# Altium schematic symbol library CP80 Preamp_OLD.SCHLIB: 22 symbols
Pins are listed as number, name and electrical type; pins without a type are passive.

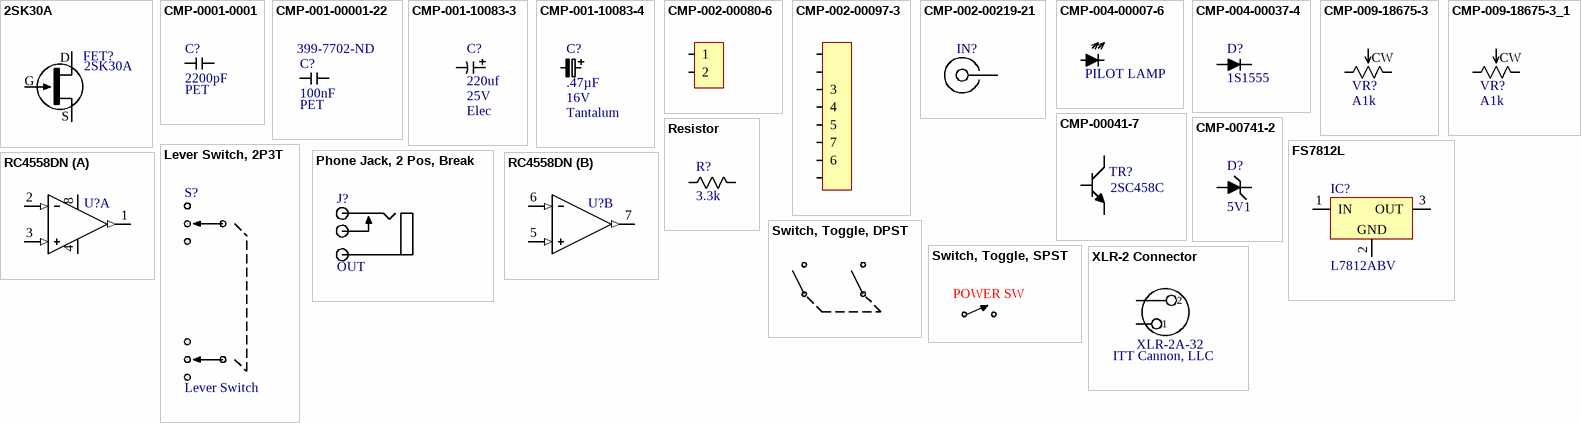
[diagram p0: symbols 2SK30A to XLR-2 Connector]

## 2SK30A
designator FET?, comment Part Number: 2SK30A  (hidden comment: These have extremely wide tollerances - Always check for correct bias when replacing)
TR FET-N 2SK30A TO-92; Manufacturer: TOSHIBA; Package: TO92
footprint TO92
pins: 1 S, 2 G, 3 D

## CMP-0001-0001
designator C?, comment value 2200pF  Capacitor Type: PET  (hidden comment: R76QF1220SE00J)
2200pF ±20% 20V (or higher) PET Capacitor / These were originally Mylar Film (PET) but I suggest replacing with metallized polypropylene (MKP / PP). Just ensure a propper lead spacing and fit.; Manufacturer: KEMET; Voltage Rating: 600V; Tolerance: 5%; Supplier 1: DigiKey; Supplier Part Number 1: 399-7702-ND
pins: 1, 2

## CMP-001-00001-22
designator C?, comment value 100nF  Capacitor Type: PET  Supplier Part Number 1: 399-7702-ND  (hidden comment: PHE450HA6100JR05)
100nF (0.1uf) ±20% 20V (or higher) PET Capacitor / These were originally Mylar Film (PET) but I suggest replacing with metallized polypropylene (MKP / PP). Just ensure a propper lead spacing and fit.; Manufacturer: KEMET; Voltage Rating: 20V; Tolerance: 20%; Supplier 1: DigiKey
pins: 1, 2

## CMP-001-10083-3
designator C?, comment value 220uf  Voltage Rating: 25V  Capacitor Type: Elec  (hidden comment: If replacing, use a good quality 220uF 20% (or better) 25V Electrolytic Capacitor that physically fits correctly)
220µF 20% 25V Electrolytic Capacitor; Manufacturer: Generic; Manufacturer: Vishay; Manufacturer Part Number: TMCJ0J475MTRF; Tolerance: 20%; Case/Package: Radial; Component Type: Capacitors
pins: N, P

## CMP-001-10083-4
designator C?, comment value .47µF  Voltage Rating: 16V  Capacitor Type: Tantalum  (hidden comment: The originals were most likely 20% @ 16V with an ESR of 50 Ohms @ 100Khz. If replaced I would use 10%, 20V with 5 Ohm ESR @ 100Khz)
.47µF TANT 20% 16V; Tolerance: 20%; Case/Package: Radial; Component Type: Capacitors
pins: N, P

## CMP-002-00080-6
designator J?, comment HDR2x1  (value not drawn)
2 pin 0.1" spacing header; Manufacturer: Amphenol Communications Solutions; Manufacturer Part Number: 10129378-902004BLF; Gender: Female; Connector Type: Pin HEader; System: Connector; Pinout: 2x1; Mating Housing: N/A; Manufacturer: N/A; CUL Cert No.: N/A; UL Cert No.: N/A; Case/Package: TH 2x1; Component Type: Connectors
pins: 1, 2

## CMP-002-00097-3
designator J?, comment HRD8x1  (value not drawn)
8 pin 0.1" header; Manufacturer: Generic; Gender: Male; Pinout: 8x1; System: Connector; Connector Type: Pin Header; CUL Cert No.: N/A; UL Cert No.: N/A; Case/Package: TH 8x1; Mating Housing: N/A; Component Type: Connectors
pins: 1, 2, 3, 4, 5, 6, 7, 8

## CMP-002-00219-21
designator IN?, comment Soldered Wire - Round Pad  (value not drawn)  (no BOM)
Single connection for a wire using a round pad that allows for insertion from either side; Manufacturer: NA; Gender: Female; System: Connector; Pinout: TH 1x1; Connector Type: Single Wire; Mating Housing: N/A; CUL Cert No.: NA; UL Cert No.: NA; Case/Package: TH 1x1; Component Type: Connectors
footprint 12AWG Soldered Wire - Round
footprint 14AWG Soldered Wire - Round
footprint 16AWG Soldered Wire - Round
footprint 18AWG Soldered Wire - Round
footprint 20AWG Soldered Wire - Round
footprint 22AWG Soldered Wire - Round
footprint 24AWG Soldered Wire - Round
footprint 26AWG Soldered Wire - Round
footprint 28AWG Soldered Wire - Round
pins: 1

## CMP-004-00007-6
designator D?, comment Function: PILOT LAMP  (hidden comment: If replacing, any standard LED with a forward voltage of 1V7 to 2V2 will work fine)
Single Color LED; Manufacturer: Various; Voltage - Forward (Max) @ If: 1V7; Manufacturer: *; Manufacturer Part Number: *; Component Type: Diodes
pins: 1 A, 2 K

## CMP-004-00037-4
designator D?, comment Part Number: 1S1555  (hidden comment: If replacing and you cannot find the original, a 1N4148 should be fine)
General purpose Rectifier Diode, 300mA, 35V V(RRM); Manufacturer: Toshiba; Manufacturer: Diodes Inc.; Manufacturer Part Number: 1N4001; Voltage - Forward (Max) @ If: 1.4V; Current - Average Rectified: 100mA; Voltage - DC Reverse (Max): 35V; Component Type: Diodes
pins: A, C

## CMP-009-18675-3
designator VR?, comment value A1k  (hidden comment: Replace with same such as DigiKey Part Number - 2223-PTN16-A01115K1A1-ND)
1k Ohm 1 Gang Logarithmic Through Hole Potentiometer 1.0 Turns Carbon 0.125W, 1/8W PC Pins; Manufacturer: Various; Manufacturer: Vishay; Manufacturer Part Number: ST-4ETB102; Power: 125mw; Tolerance: 20%; Component Type: Resistors
pins: 1, 2, 3
text: CW

## CMP-009-18675-3_1
designator VR?, comment value A1k  (hidden comment: Trimmer)
Through Hole Trimmer Pot 1.0 Turns Carbon 0.125W, 1/8W PC Pins; Manufacturer: Various; Manufacturer: Vishay; Manufacturer Part Number: ST-4ETB102; Power: 125mw; Tolerance: 20%; Component Type: Resistors
pins: 1, 2, 3
text: CW

## CMP-00041-7
designator TR?, comment Part Number: 2SC458C  (hidden comment: If replacing, these are still readily available.)
Small Signal Bipolar Transistor, 0.6A I(C), 40V V(BR)CEO, 1-Element, NPN, Silicon, TO-236; Manufacturer: Hitachi; Manufacturer: LESHAN RADIO COMPANY, LTD.; Manufacturer Part Number: LMBT4401LT1G; Manufacturer: MCC; Manufacturer Part Number: MMBT4401-TP; Manufacturer: Leshan Radio Co.; Manufacturer: onsemi; Manufacturer Part Number: MMBT4401LT1G; Manufacturer: Nexperia; Manufacturer Part Number: PMBT4401,215; Vce Saturation (Max) @ Ib, Ic: 400mV @ Ic=10mA, Ib 1mA; DC Current Gain (hFE) (Min) @ Ic, Vce: 100 @ Ic=10mA, VCE=1V; Current - Collector Cutoff (Max): 500nA; Power - Max: 200mW; Current - Collector (Ic) (Max): 100mA; Type: NPN; Case/Package: TO-92; Component Type: BJT
pins: 1, 2, 3

## CMP-00741-2
designator D?, comment Voltage - Zener (Nom): 5V1  (hidden comment: If replacing, any 5V1 zener capable of 500mW is fine)
Zener Diode 5.1 V 500 mW 5%; Manufacturer: Japan Radio Co LTD; Manufacturer: onsemi; Manufacturer Part Number: MM3Z12VST1G; Impedence (Max): 60; Case/Package: Radial; Tolerance: 5%; Power - Max: 500mW; Component Type: Zener
pins: A, C

## FS7812L
designator IC?, comment Part Number: L7812ABV  (hidden comment: If replacing, there are many pin for pin compatible devices)
Linear Voltage Regulator IC Positive Fixed 1 Output 1.5A TO-220; Manufacturer: STMicroelectronics; Package: TO220
footprint TO220 (TO, Thru-Hole, Vertical, Heatsink Mounted; 3 In-Line Leads; Pitch 2.54 mm)
pins: 1 IN (power), 2 GND (power), 3 OUT (power)

## Lever Switch, 2P3T
designator S?, comment Lever Switch
Lever Switch, 2P3T; Manufacturer: Diodes Incorporated; Manufacturer: Blue Rocket; Manufacturer Part Number: BAV21W; Manufacturer: Diodes; Manufacturer Part Number: BAV21W-7-F; Manufacturer: Diodes Inc.; Manufacturer: Comchip; Manufacturer Part Number: BAV21W-HF; Voltage - DC Reverse (Max): 200V; Current - Average Rectified: 200mA; Voltage - Forward (Max) @ If: 1.25V@200ma; Mounting Type: Surface Mount; Package / Case: SOD-123; Component Type: Diodes
pins: 0, 1, 2, 2, 2, 2, 2, 2

## Phone Jack, 2 Pos, Break
designator J?, comment Function: OUT  (hidden comment: If replacing, replace with same high quality)
Phone Jack, 6.35mm (0.250", 1/4", Mono Connector, 1 Switch Contact
pins: 1, 2, 3, 3, 3

## RC4558DN
designator U?, comment If replacing, replace with the same as removed. These are still available.  (value not drawn)
Dual General-Purpose Operational Amplifier, 10 to 30 V, 0 to 70 degC, 8-pin SOP (PW8), Green (RoHS & no Sb/Br); PartNumber: RC4558PWR; Manufacturer: Texas Instruments; Number of Channels: 2; Total Supply Voltage(Max)(+5V is 5, +/-5V is 10): 30; Iq per channel(Max)(mA): 2.8; Slew Rate(Typ)(V/us): 1.7; Vio (25C)(Max)(mV): 6; Vn at 1kHz(Typ)(nV/rtHz): 8; GBW(Typ)(MHz): 3; CMRR(Min)(dB): 70
part A pins: 1 OUT1 (out), 2 IN1- (in), 3 IN1+ (in), 4, 8
part B pins: 5 IN2+ (in), 6 IN2- (in), 7 OUT2 (out)

## Resistor
designator R?, comment value 3.3k  (hidden comment: All resistors are 10% 1/4 Watt. I suggest any replacement use 1% 1/4 Watt metal film.)
10% 1/4 Watt Resistor; Manufacturer: Generic; Power: 250mW; Tolerance: 20%; Component Type: Resistors
pins: 1, 2

## Switch, Toggle, DPST
designator S?  (value not drawn)
pins: 0, 0, 1, 1

## Switch, Toggle, SPST
designator PS?, comment POWER SW
pins: 0, 1

## XLR-2 Connector
designator J?, comment Part Number: XLR-2A-32  Manufacturer: ITT Cannon, LLC  (hidden comment: XLR-2A-32 is the male version on the piano while XLR2A11C Is the female connector on the cable)
2 Position Circular Connector Plug, Female Sockets Solder
pins: 0, 0
text: 2; 1